# Altium schematic symbol library WIRE_PAD.Schlib: 1 symbol
Pins are listed as number, name and electrical type; pins without a type are passive.

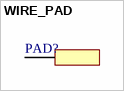
[diagram p0: symbol WIRE_PAD]

## WIRE_PAD
designator PAD?  (no BOM)
pins: 1